# Altium integrated library FOS-00 Rev 1_4.IntLib: 7 symbols
Pins are listed as number, name and electrical type; pins without a type are passive.

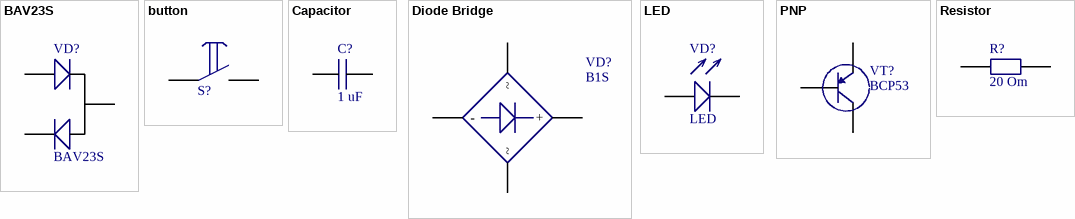
[diagram p0: symbols BAV23S to Resistor]

## BAV23S
designator VD?
Value: BAV23S
footprint SOT 23 (SOT23, 3-Leads, Body 2,90x2,45mm, Pitch 0,95mm, IPC Medium Density)
pins: 1, 2, 3

## button
designator S?  (value not drawn)
footprint button1_1
footprint button1_2
pins: 1, 2

## Capacitor
designator C?  value 1 uF  (hidden comment: Capacitor)
footprint CAP0805 (Chip Capacitor, 2-Leads, Body 2,00x1,25mm, IPC Medium Density)
footprint Cap5mm
footprint CAP0603
footprint CAP1206
footprint CAP0402
pins: 1, 2

## Diode Bridge
designator VD?  value B1S  (hidden comment: Diode Bridge)
footprint diode bridge (SOP, 4-Leads, Body 4,70x4,00mm, Pitch 2,70mm, IPC Medium Density)
footprint db-1ms
pins: 1 +, 2 -, 3 ~, 4 ~

## LED
designator VD?
Value: LED
footprint PIRANHA LED LENS
footprint Piranha LED
footprint LED 5mm RED
footprint LED 5MM GREEN
footprint LED 5mm YELLOW
footprint LED3535
footprint LED3535+RES1206 (Chip Resistor, 2-Leads, Body 3,20x1,60mm, IPC Medium Density)
footprint LED3535+RES1206sakura
footprint LED3535sakura
footprint LED_majak
footprint LED_2835; pin to pad 1>2 2>1
footprint LED_SAKURA
pins: 1, 2

## PNP
designator VT?  value BCP53  (hidden comment: PNP)
footprint D 2 PAK; pin to pad B>1 E>2 K>3
footprint D PAK; pin to pad B>1 E>2 K>3
footprint SOT 23 (SOT23, 3-Leads, Body 2,90x2,45mm, Pitch 0,95mm, IPC Medium Density); pin to pad B>1 E>2 K>3
footprint SOT 89 (SOT89, 3-Leads, Body 4,50x2,45mm, Pitch 1,50mm, Lead Span 4,1mm, IPC Medium Density); pin to pad B>1 E>2 K>3
footprint TO-92; pin to pad B>1 E>2 K>3
footprint TO-220term; pin to pad B>1 E>2 K>3
footprint TO-220.1; pin to pad B>1 E>2 K>3
footprint TO-220.2; pin to pad B>1 E>2 K>3
footprint TO-220.3; pin to pad B>1 E>2 K>3
footprint SOT223; pin to pad B>1 E>3 K>2+4
pins: B, E, K

## Resistor
designator R?  value 20 Om  (hidden comment: Resistor)
footprint Res0805
footprint RES1206 (Chip Resistor, 2-Leads, Body 3,20x1,60mm, IPC Medium Density)
footprint RES2512
footprint Res0.125W
footprint Res0.25W
footprint Res0.5W7mm
footprint Res0.5W9mm
footprint Res0603
footprint RES0402
pins: 1, 2